# Altium footprint library 2020-07-14_10-12-07.PcbLib: 3 footprints
Each footprint in its own frame and in the unit in brackets; x right, y up, seen from the top. Pads: shape width x height; smd on the part's side, far side on the other; paste and mask are expansions set on the pad; w line width, h text height; cw(c..) or ccw(c..) is an arc to the next point about the centre after c.
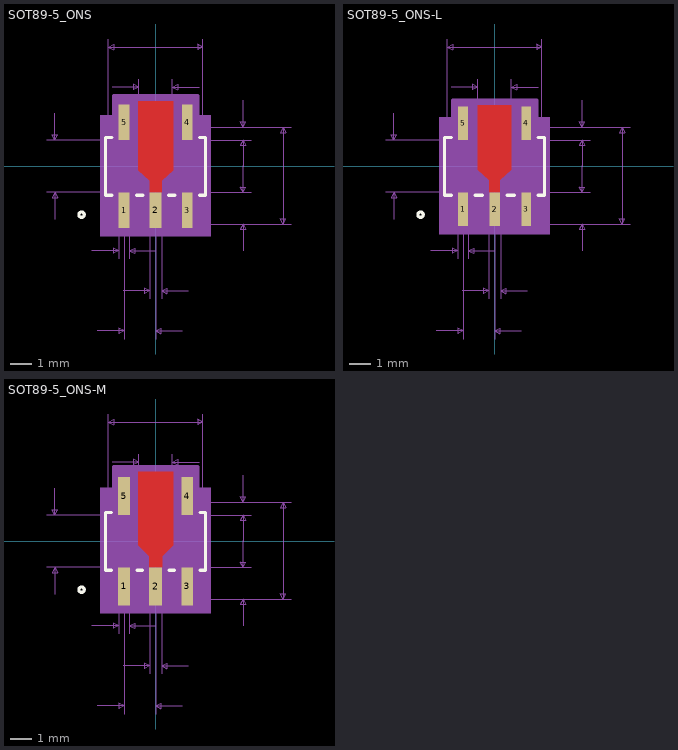
[diagram p0: the footprints below, top view; thin cyan lines are the x and y axes]

## SOT89-5_ONS [mil]
pads (5):
  rect 20x66.87 smd paste+0 mask+0: 1(-59.06,-82.44) 3(59.06,-82.44) 4(59.06,82.44) 5(-59.06,82.44)
  rect 22x66.87 smd paste+0 mask+0: 2(0,-82.44)
Top Layer:
  region: 11,-49 -11,-49 -11,-27 -32.48,-7.48 -32.48,121.78 -10.98,121.78 10.98,121.78 32.48,121.78 32.48,-7.48 11,-27
Top Overlay:
  circle w6: c-138.5,-90.5 r5
  lines w6: -82.16,-54 -93.5,-54 -93.5,54 -82.16,54 ; -35.96,-54 -24.1,-54 ; 24.1,-54 35.96,-54 ; 82.16,-54 93.5,-54 93.5,54 82.16,54
Top Paste:
  region: 11,-49 -11,-49 -11,-27 -32.48,-7.48 -32.48,121.78 -10.98,121.78 10.98,121.78 32.48,121.78 32.48,-7.48 11,-27
Top Solder:
  region: 11,-49 -11,-49 -11,-27 -32.48,-7.48 -32.48,121.78 -10.98,121.78 10.98,121.78 32.48,121.78 32.48,-7.48 11,-27
Mechanical 5:
  region: -103.5,95.87 103.5,95.87 103.5,-130.87 -103.5,-130.87
Mechanical 7:
  lines w1: -203.5,-49 0,-49 178.5,-49 ; -203.5,49 0,49 178.5,49 ; -188.5,-99 -188.5,-49 ; -188.5,99 -188.5,49 ; -119.06,-158 -69.06,-158 ; -109.06,-308 -59.06,-308 ; -88.5,49 -88.5,238 ; -81.5,148 -31.5,148 ; -69.06,-173 -69.06,-108 ; -61,-233 -11,-233 ; -59.06,-323 -59.06,-108 ; -49.06,-173 -49.06,-108 ; -31.5,73 -31.5,163 ; -11,-248 -11,-108 ; 0,-323 0,-108 ; 0.94,-158 -49.06,-158 ; 11,-248 11,-108 ; 31.5,73 31.5,163 ; 50,-308 0,-308 ; 61,-233 11,-233 ; 81.5,148 31.5,148 ; 88.5,49 88.5,238 ; 163.5,-158 163.5,-108 ; 163.5,-1 163.5,49 ; 163.5,1 163.5,-49 ; 163.5,123 163.5,73 ; 178.5,-108 0,-108 ; 178.5,73 0,73 253.5,73 ; 253.5,-108 0,-108 ; -188.5,-49 -193.5,-59 -183.5,-59 -188.5,-49 ; -188.5,49 -193.5,59 -183.5,59 -188.5,49 ; -88.5,223 88.5,223 ; -88.5,223 -78.5,228 -78.5,218 -88.5,223 ; -69.06,-158 -79.06,-153 -79.06,-163 -69.06,-158 ; -59.06,-308 -69.06,-303 -69.06,-313 -59.06,-308 ; -49.06,-158 -39.06,-153 -39.06,-163 -49.06,-158 ; -31.5,148 -41.5,153 -41.5,143 -31.5,148 ; -11,-233 -21,-228 -21,-238 -11,-233 ; 0,-308 10,-303 10,-313 0,-308 ; 11,-233 21,-228 21,-238 11,-233 ; 31.5,148 41.5,153 41.5,143 31.5,148 ; 88.5,223 78.5,228 78.5,218 88.5,223 ; 163.5,-108 158.5,-118 168.5,-118 163.5,-108 ; 163.5,-49 158.5,-39 168.5,-39 163.5,-49 ; 163.5,49 158.5,39 168.5,39 163.5,49 ; 163.5,73 158.5,83 168.5,83 163.5,73 ; 238.5,-108 238.5,73 ; 238.5,-108 233.5,-98 243.5,-98 238.5,-108 ; 238.5,73 233.5,63 243.5,63 238.5,73
  text "Default Padstyle: r51_170" at -312.5,-415.87 h50
  text "Pin 2 Padstyle: r56_170" at -287.5,-465.87 h50
  text "Alt 1 Padstyle: b152_229h76" at -337.5,-515.87 h50
  text "Alt 2 Padstyle: b229_152h76" at -337.5,-565.87 h50
  text "0.181in/4.597mm" at 258.5,-12.5 h25
  text "0.059in/1.499mm" at 183.5,-123.5 h25
  text "0.024in/0.61mm" at 183.5,81 h25
  text "0.059in/1.5mm" at -110.78,-353 h25
  text "0.022in/0.559mm" at 20,-278 h25
  text "0.02in/0.508mm" at -254.06,-203 h25
  text "0.063in/1.6mm" at -81.25,168 h25
  text "0.177in/4.496mm" at -93.75,243 h25
  text "0.098in/2.489mm" at -396,-12.5 h25
Mechanical 13:
  circle w0: c-78.5,-39 r5
  lines w1: -88.5,-49 88.5,-49 88.5,49 -88.5,49 -88.5,-49 ; -69.06,-108 -69.06,-49 -49.06,-49 -49.06,-108 -69.06,-108 ; -69.06,49 -49.06,49 -49.06,108 -69.06,108 -69.06,49 ; -11,-108 -11,-49 11,-49 11,-108 -11,-108 ; 49.06,-108 49.06,-49 69.06,-49 69.06,-108 49.06,-108 ; 49.06,49 69.06,49 69.06,108 49.06,108 49.06,49
Mechanical 15:
  region: -98.5,-59 -98.5,59 -79.06,59 -79.06,131.78 79.06,131.78 79.06,59 98.5,59 98.5,-59 79.06,-59 79.06,-125.87 -79.06,-125.87 -79.06,-59
  lines w6: -98.5,-59 -98.5,59 -79.06,59 -79.06,131.78 79.06,131.78 79.06,59 98.5,59 98.5,-59 79.06,-59 79.06,-125.87 -79.06,-125.87 -79.06,-59 -98.5,-59
3D body: height 10, standoff 0, extent 0,0 10,10

## SOT89-5_ONS-L [mm]
pads (5):
  rect 0.458x1.599 smd paste+0 mask+0: 1(-1.5,-2.044) 3(1.5,-2.044) 4(1.5,2.044) 5(-1.5,2.044)
  rect 0.509x1.599 smd paste+0 mask+0: 2(0,-2.044)
Top Layer:
  region: 0.254,-1.245 -0.254,-1.245 -0.254,-0.661 -0.8,-0.165 -0.8,2.893 -0.254,2.893 0.254,2.893 0.8,2.893 0.8,-0.165 0.254,-0.661
Top Overlay:
  circle w0.152: c-3.518,-2.299 r0.127
  lines w0.152: -2.062,-1.372 -2.375,-1.372 -2.375,1.372 -2.062,1.372 ; -0.938,-1.372 -0.587,-1.372 ; 0.587,-1.372 0.938,-1.372 ; 2.062,-1.372 2.375,-1.372 2.375,1.372 2.062,1.372
Top Paste:
  region: 0.254,-1.245 -0.254,-1.245 -0.254,-0.661 -0.8,-0.165 -0.8,2.893 -0.254,2.893 0.254,2.893 0.8,2.893 0.8,-0.165 0.254,-0.661
Top Solder:
  region: 0.254,-1.245 -0.254,-1.245 -0.254,-0.661 -0.8,-0.165 -0.8,2.893 -0.254,2.893 0.254,2.893 0.8,2.893 0.8,-0.165 0.254,-0.661
Mechanical 5:
  region: -2.629,2.335 2.629,2.335 2.629,-3.224 -2.629,-3.224
Mechanical 7:
  lines w0.025: -5.169,-1.245 0,-1.245 4.534,-1.245 ; -5.169,1.245 0,1.245 4.534,1.245 ; -4.788,-2.515 -4.788,-1.245 ; -4.788,2.515 -4.788,1.245 ; -3.024,-4.013 -1.754,-4.013 ; -2.77,-7.823 -1.5,-7.823 ; -2.248,1.245 -2.248,6.045 ; -2.07,3.759 -0.8,3.759 ; -1.754,-4.394 -1.754,-2.743 ; -1.549,-5.918 -0.279,-5.918 ; -1.5,-8.204 -1.5,-2.743 ; -1.246,-4.394 -1.246,-2.743 ; -0.8,1.854 -0.8,4.14 ; -0.279,-6.299 -0.279,-2.743 ; 0,-8.204 0,-2.743 ; 0.024,-4.013 -1.246,-4.013 ; 0.279,-6.299 0.279,-2.743 ; 0.8,1.854 0.8,4.14 ; 1.27,-7.823 0,-7.823 ; 1.549,-5.918 0.279,-5.918 ; 2.07,3.759 0.8,3.759 ; 2.248,1.245 2.248,6.045 ; 4.153,-4.013 4.153,-2.743 ; 4.153,-0.025 4.153,1.245 ; 4.153,0.025 4.153,-1.245 ; 4.153,3.124 4.153,1.854 ; 4.534,-2.743 0,-2.743 ; 4.534,1.854 0,1.854 6.439,1.854 ; 6.439,-2.743 0,-2.743 ; -4.788,-1.245 -4.915,-1.499 -4.661,-1.499 -4.788,-1.245 ; -4.788,1.245 -4.915,1.499 -4.661,1.499 -4.788,1.245 ; -2.248,5.664 2.248,5.664 ; -2.248,5.664 -1.994,5.791 -1.994,5.537 -2.248,5.664 ; -1.754,-4.013 -2.008,-3.886 -2.008,-4.14 -1.754,-4.013 ; -1.5,-7.823 -1.754,-7.696 -1.754,-7.95 -1.5,-7.823 ; -1.246,-4.013 -0.992,-3.886 -0.992,-4.14 -1.246,-4.013 ; -0.8,3.759 -1.054,3.886 -1.054,3.632 -0.8,3.759 ; -0.279,-5.918 -0.533,-5.791 -0.533,-6.045 -0.279,-5.918 ; 0,-7.823 0.254,-7.696 0.254,-7.95 0,-7.823 ; 0.279,-5.918 0.533,-5.791 0.533,-6.045 0.279,-5.918 ; 0.8,3.759 1.054,3.886 1.054,3.632 0.8,3.759 ; 2.248,5.664 1.994,5.791 1.994,5.537 2.248,5.664 ; 4.153,-2.743 4.026,-2.997 4.28,-2.997 4.153,-2.743 ; 4.153,-1.245 4.026,-0.991 4.28,-0.991 4.153,-1.245 ; 4.153,1.245 4.026,0.991 4.28,0.991 4.153,1.245 ; 4.153,1.854 4.026,2.108 4.28,2.108 4.153,1.854 ; 6.058,-2.743 6.058,1.854 ; 6.058,-2.743 5.931,-2.489 6.185,-2.489 6.058,-2.743 ; 6.058,1.854 5.931,1.6 6.185,1.6 6.058,1.854
  text "Default Padstyle: r46_160" at -7.938,-10.463 h1.27
  text "Pin 2 Padstyle: r51_160" at -7.302,-11.733 h1.27
  text "Alt 1 Padstyle: b152_229h76" at -8.572,-13.003 h1.27
  text "Alt 2 Padstyle: b229_152h76" at -8.572,-14.273 h1.27
  text "0.181in/4.597mm" at 6.566,-0.318 h0.64
  text "0.059in/1.499mm" at 4.661,-3.137 h0.64
  text "0.024in/0.61mm" at 4.661,2.057 h0.64
  text "0.059in/1.5mm" at -2.814,-8.966 h0.64
  text "0.022in/0.559mm" at 0.508,-7.061 h0.64
  text "0.02in/0.508mm" at -6.453,-5.156 h0.64
  text "0.063in/1.6mm" at -2.064,4.267 h0.64
  text "0.177in/4.496mm" at -2.381,6.172 h0.64
  text "0.098in/2.489mm" at -10.058,-0.318 h0.64
Mechanical 13:
  circle w0: c-1.994,-0.991 r0.127
  lines w0.025: -2.248,-1.245 2.248,-1.245 2.248,1.245 -2.248,1.245 -2.248,-1.245 ; -1.754,-2.743 -1.754,-1.245 -1.246,-1.245 -1.246,-2.743 -1.754,-2.743 ; -1.754,1.245 -1.246,1.245 -1.246,2.743 -1.754,2.743 -1.754,1.245 ; -0.279,-2.743 -0.279,-1.245 0.279,-1.245 0.279,-2.743 -0.279,-2.743 ; 1.246,-2.743 1.246,-1.245 1.754,-1.245 1.754,-2.743 1.246,-2.743 ; 1.246,1.245 1.754,1.245 1.754,2.743 1.246,2.743 1.246,1.245
Mechanical 15:
  region: -2.502,-1.499 -2.502,1.499 -2.008,1.499 -2.008,3.147 2.008,3.147 2.008,1.499 2.502,1.499 2.502,-1.499 2.008,-1.499 2.008,-3.097 -2.008,-3.097 -2.008,-1.499
  lines w0.152: -2.502,-1.499 -2.502,1.499 -2.008,1.499 -2.008,3.147 2.008,3.147 2.008,1.499 2.502,1.499 2.502,-1.499 2.008,-1.499 2.008,-3.097 -2.008,-3.097 -2.008,-1.499 -2.502,-1.499
3D body: height 0.25, standoff 0, extent 0,0 0.254,0.254

## SOT89-5_ONS-M [mm]
pads (5):
  rect 0.558x1.799 smd paste+0 mask+0: 1(-1.5,-2.144) 3(1.5,-2.144) 4(1.5,2.144) 5(-1.5,2.144)
  rect 0.609x1.799 smd paste+0 mask+0: 2(0,-2.144)
Top Layer:
  region: 0.304,-1.245 -0.304,-1.245 -0.304,-0.711 -0.825,-0.19 -0.825,3.293 -0.279,3.293 0.279,3.293 0.825,3.293 0.825,-0.19 0.304,-0.711
Top Overlay:
  circle w0.152: c-3.518,-2.299 r0.127
  lines w0.152: -2.112,-1.372 -2.375,-1.372 -2.375,1.372 -2.112,1.372 ; -0.888,-1.372 -0.637,-1.372 ; 0.637,-1.372 0.888,-1.372 ; 2.112,-1.372 2.375,-1.372 2.375,1.372 2.112,1.372
Top Paste:
  region: 0.304,-1.245 -0.304,-1.245 -0.304,-0.711 -0.825,-0.19 -0.825,3.293 -0.279,3.293 0.279,3.293 0.825,3.293 0.825,-0.19 0.304,-0.711
Top Solder:
  region: 0.304,-1.245 -0.304,-1.245 -0.304,-0.711 -0.825,-0.19 -0.825,3.293 -0.279,3.293 0.279,3.293 0.825,3.293 0.825,-0.19 0.304,-0.711
Mechanical 5:
  region: -2.629,2.535 2.629,2.535 2.629,-3.424 -2.629,-3.424
Mechanical 7:
  lines w0.025: -5.169,-1.245 0,-1.245 4.534,-1.245 ; -5.169,1.245 0,1.245 4.534,1.245 ; -4.788,-2.515 -4.788,-1.245 ; -4.788,2.515 -4.788,1.245 ; -3.024,-4.013 -1.754,-4.013 ; -2.77,-7.823 -1.5,-7.823 ; -2.248,1.245 -2.248,6.045 ; -2.07,3.759 -0.8,3.759 ; -1.754,-4.394 -1.754,-2.743 ; -1.549,-5.918 -0.279,-5.918 ; -1.5,-8.204 -1.5,-2.743 ; -1.246,-4.394 -1.246,-2.743 ; -0.8,1.854 -0.8,4.14 ; -0.279,-6.299 -0.279,-2.743 ; 0,-8.204 0,-2.743 ; 0.024,-4.013 -1.246,-4.013 ; 0.279,-6.299 0.279,-2.743 ; 0.8,1.854 0.8,4.14 ; 1.27,-7.823 0,-7.823 ; 1.549,-5.918 0.279,-5.918 ; 2.07,3.759 0.8,3.759 ; 2.248,1.245 2.248,6.045 ; 4.153,-4.013 4.153,-2.743 ; 4.153,-0.025 4.153,1.245 ; 4.153,0.025 4.153,-1.245 ; 4.153,3.124 4.153,1.854 ; 4.534,-2.743 0,-2.743 ; 4.534,1.854 0,1.854 6.439,1.854 ; 6.439,-2.743 0,-2.743 ; -4.788,-1.245 -4.915,-1.499 -4.661,-1.499 -4.788,-1.245 ; -4.788,1.245 -4.915,1.499 -4.661,1.499 -4.788,1.245 ; -2.248,5.664 2.248,5.664 ; -2.248,5.664 -1.994,5.791 -1.994,5.537 -2.248,5.664 ; -1.754,-4.013 -2.008,-3.886 -2.008,-4.14 -1.754,-4.013 ; -1.5,-7.823 -1.754,-7.696 -1.754,-7.95 -1.5,-7.823 ; -1.246,-4.013 -0.992,-3.886 -0.992,-4.14 -1.246,-4.013 ; -0.8,3.759 -1.054,3.886 -1.054,3.632 -0.8,3.759 ; -0.279,-5.918 -0.533,-5.791 -0.533,-6.045 -0.279,-5.918 ; 0,-7.823 0.254,-7.696 0.254,-7.95 0,-7.823 ; 0.279,-5.918 0.533,-5.791 0.533,-6.045 0.279,-5.918 ; 0.8,3.759 1.054,3.886 1.054,3.632 0.8,3.759 ; 2.248,5.664 1.994,5.791 1.994,5.537 2.248,5.664 ; 4.153,-2.743 4.026,-2.997 4.28,-2.997 4.153,-2.743 ; 4.153,-1.245 4.026,-0.991 4.28,-0.991 4.153,-1.245 ; 4.153,1.245 4.026,0.991 4.28,0.991 4.153,1.245 ; 4.153,1.854 4.026,2.108 4.28,2.108 4.153,1.854 ; 6.058,-2.743 6.058,1.854 ; 6.058,-2.743 5.931,-2.489 6.185,-2.489 6.058,-2.743 ; 6.058,1.854 5.931,1.6 6.185,1.6 6.058,1.854
  text "Default Padstyle: r56_180" at -7.938,-10.663 h1.27
  text "Pin 2 Padstyle: r61_180" at -7.302,-11.933 h1.27
  text "Alt 1 Padstyle: b152_229h76" at -8.572,-13.203 h1.27
  text "Alt 2 Padstyle: b229_152h76" at -8.572,-14.473 h1.27
  text "0.181in/4.597mm" at 6.566,-0.318 h0.64
  text "0.059in/1.499mm" at 4.661,-3.137 h0.64
  text "0.024in/0.61mm" at 4.661,2.057 h0.64
  text "0.059in/1.5mm" at -2.814,-8.966 h0.64
  text "0.022in/0.559mm" at 0.508,-7.061 h0.64
  text "0.02in/0.508mm" at -6.453,-5.156 h0.64
  text "0.063in/1.6mm" at -2.064,4.267 h0.64
  text "0.177in/4.496mm" at -2.381,6.172 h0.64
  text "0.098in/2.489mm" at -10.058,-0.318 h0.64
Mechanical 13:
  circle w0: c-1.994,-0.991 r0.127
  lines w0.025: -2.248,-1.245 2.248,-1.245 2.248,1.245 -2.248,1.245 -2.248,-1.245 ; -1.754,-2.743 -1.754,-1.245 -1.246,-1.245 -1.246,-2.743 -1.754,-2.743 ; -1.754,1.245 -1.246,1.245 -1.246,2.743 -1.754,2.743 -1.754,1.245 ; -0.279,-2.743 -0.279,-1.245 0.279,-1.245 0.279,-2.743 -0.279,-2.743 ; 1.246,-2.743 1.246,-1.245 1.754,-1.245 1.754,-2.743 1.246,-2.743 ; 1.246,1.245 1.754,1.245 1.754,2.743 1.246,2.743 1.246,1.245
Mechanical 15:
  region: -2.502,-1.499 -2.502,1.499 -2.008,1.499 -2.008,3.547 2.008,3.547 2.008,1.499 2.502,1.499 2.502,-1.499 2.008,-1.499 2.008,-3.297 -2.008,-3.297 -2.008,-1.499
  lines w0.152: -2.502,-1.499 -2.502,1.499 -2.008,1.499 -2.008,3.547 2.008,3.547 2.008,1.499 2.502,1.499 2.502,-1.499 2.008,-1.499 2.008,-3.297 -2.008,-3.297 -2.008,-1.499 -2.502,-1.499
3D body: height 0.25, standoff 0, extent 0,0 0.254,0.254